# EAGLE library part ADA4692-2 (library LMV358)
Low Power, 3.6 MHz, Low Noise, Rail-to-Rail Output, Operational Amplifiers Source: http://www.analog.com/static/imported-files/data_sheets/ADA4691-2_4692-2_4692-4.pdf
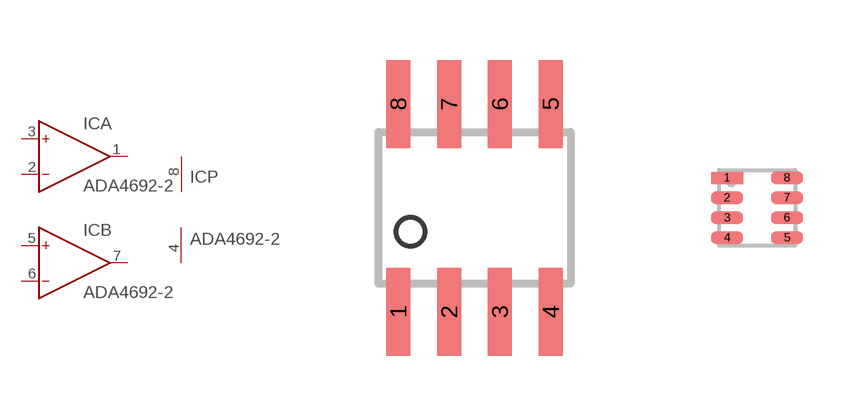
[diagram p120: symbol with the pads of SO8; footprints SO8, LFCSP8_CP]

Designator prefix IC; gates A=OP B=OP P=PWR+-

## ADA4692-2R (MPN: ADA4692-2ARZ; OC_FARNELL: 1760810; OC_NEWARK: 05R6523)  [SO8]
1  A:OUT  out
2  A:IN-  in
3  A:IN+  in
4  P:V-  pwr
5  B:IN+  in
6  B:IN-  in
7  B:OUT  out
8  P:V+  pwr

## ADA4692-2CP (OC_FARNELL: 1827383; OC_NEWARK: unknown)  [LFCSP8_CP]
Pads as for SO8

## Footprint SO8 (pad centres in mm)
8-Lead Small Outline IC (SO-8) Source: http://www.analog.com/UploadedFiles/Data_Sheets/703465986AD8611_2_0.pdf
smd 0.6 x 2.2: 1 -1.905,-2.6; 2 -0.635,-2.6; 3 0.635,-2.6; 4 1.905,-2.6; 5 1.905,2.6; 6 0.635,2.6; 7 -0.635,2.6; 8 -1.905,2.6

## Footprint LFCSP8_CP (pad centres in mm)
8-Lead Lead Frame Chip Scale Package LFCSP_WD 2 mm × 2 mm Body, Very Very Thin, Dual Lead Source: http://www.analog.com/static/imported-files/data_sheets/ADA4075-2.pdf
smd 0.8 x 0.3: 1 -0.75,0.75; 2 -0.75,0.25; 3 -0.75,-0.25; 4 -0.75,-0.75; 5 0.75,-0.75; 6 0.75,-0.25; 7 0.75,0.25; 8 0.75,0.75